# Altium schematic symbol library Schlib1.SchLib: 23 symbols
Pins are listed as number, name and electrical type; pins without a type are passive.

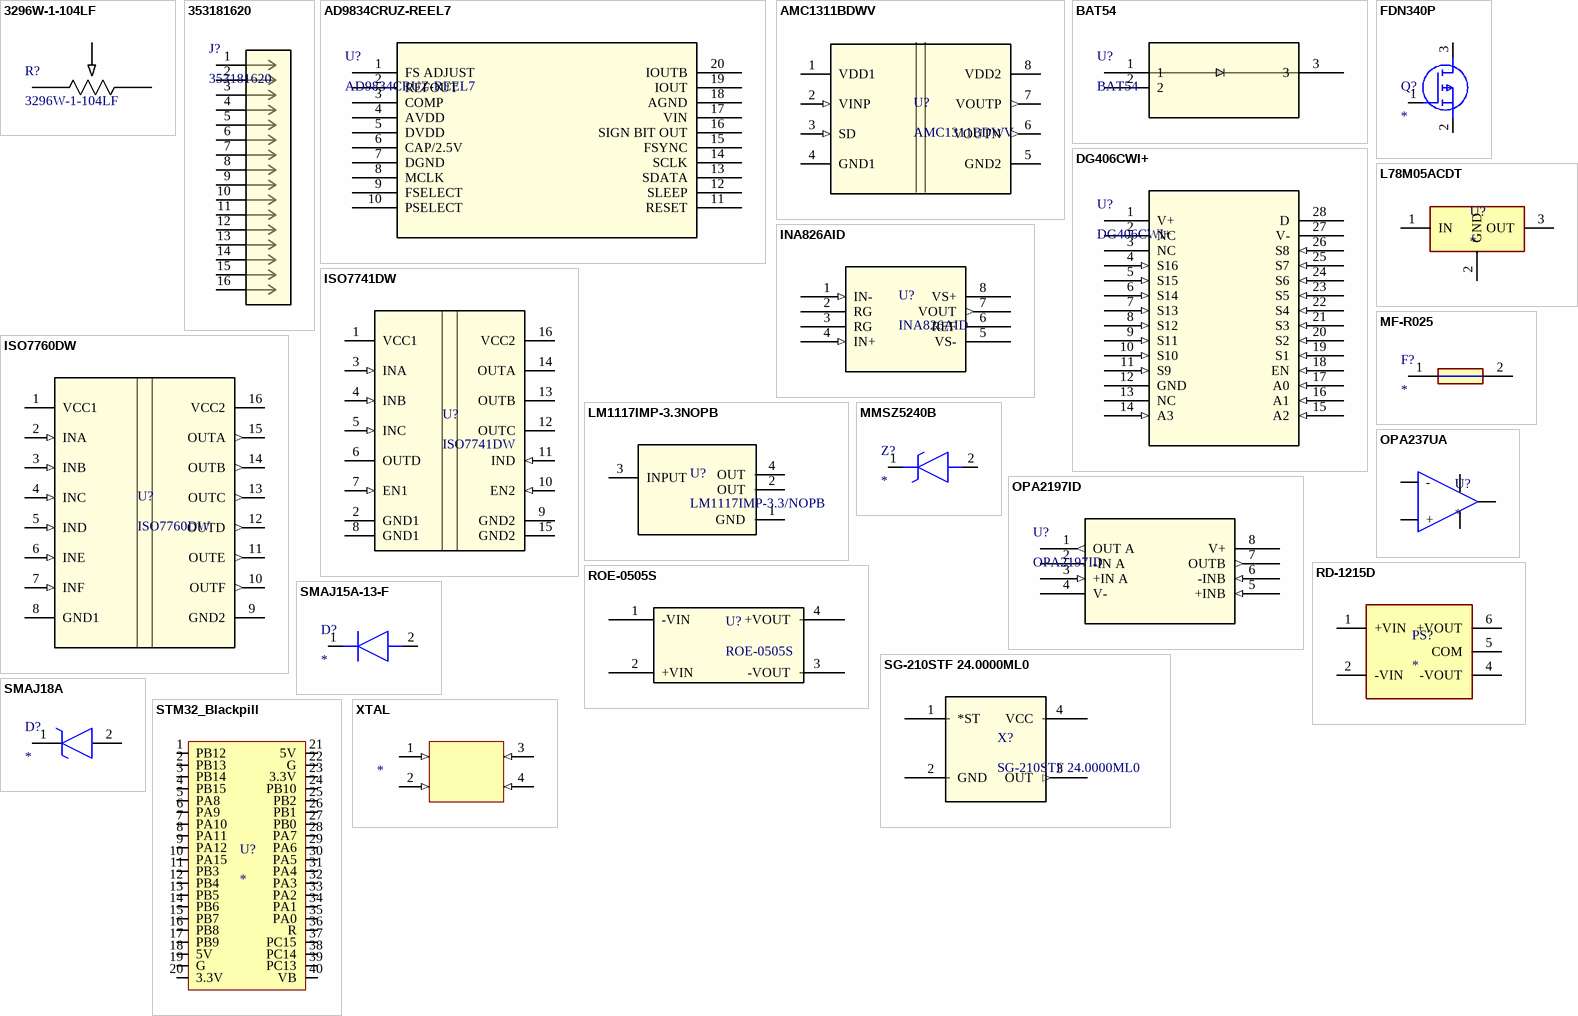
[diagram p0: symbols 3296W-1-104LF to XTAL]

## 3296W-1-104LF
designator R?
Description; Manufacturer_Name: Bourns Electronics; Copyright: Copyright (C) 2025 Ultra Librarian. All rights reserved.; Manufacturer_Part_Number: 3296W-1-104LF
footprint POT_3296W
pins: 1, 2, 3

## 353181620
designator J?
4.20mm Pitch Mini-Fit Header, Dual Row, Right-Angle, 16 Circuits, PA Polyamide (Nylon) 6/6 94V-2, White; Manufacturer_Name: Molex Connector Corporation; Copyright: Copyright (C) 2025 Ultra Librarian. All rights reserved.; Manufacturer_Part_Number: 353181620; RefDes: RefDes; Type: Type
footprint CONN_SD-35318-xxxx_16_MOL
pins: 1, 2, 3, 4, 5, 6, 7, 8, 9, 10, 11, 12, 13, 14, 15, 16

## AD9834CRUZ-REEL7
designator U?
20 mW Power, 2.3 V to 5.5 V, 75 MHz Complete DDS; Manufacturer_Name: Analog Devices Inc; Copyright: Copyright (C) 2026 Ultra Librarian. All rights reserved.; Manufacturer_Part_Number: AD9834CRUZ-REEL7; RefDes: RefDes; Type: Type
footprint RU_20_ADI-M
pins: 1 FS ADJUST, 2 REFOUT, 3 COMP, 4 AVDD (power), 5 DVDD (power), 6 CAP/2.5V, 7 DGND, 8 MCLK, 9 FSELECT, 10 PSELECT, 11 RESET, 12 SLEEP, 13 SDATA, 14 SCLK, 15 FSYNC, 16 SIGN BIT OUT, 17 VIN, 18 AGND, 19 IOUT, 20 IOUTB

## AMC1311BDWV
designator U?
2-V input, precision voltage sensing reinforced isolated amplifier 8-SOIC -55 to 125; Manufacturer_Name: Texas Instruments; TYPE: TYPE; RefDes: RefDes; Copyright: Copyright (C) 2025 Ultra Librarian. All rights reserved.; Manufacturer_Part_Number: AMC1311BDWV
footprint DWV0008A
pins: 1 VDD1 (power), 2 VINP (in), 3 SD (in), 4 GND1 (power), 5 GND2 (power), 6 VOUTN (out), 7 VOUTP (out), 8 VDD2 (power)

## BAT54
designator U?
Description; Manufacturer_Name: onsemi; Copyright: Copyright (C) 2025 Ultra Librarian. All rights reserved.; Manufacturer_Part_Number: BAT54; RefDes: RefDes; Type: Type
footprint SOT-23_3L_ONS-M
pins: 1, 2, 3

## DG406CWI+
designator U?
Improved, 16-Channel/Dual 8-Channel, CMOS Analog Multiplexers; Manufacturer_Name: Analog Devices Inc; Copyright: Copyright (C) 2026 Ultra Librarian. All rights reserved.; Manufacturer_Part_Number: DG406CWI+; RefDes: RefDes; Type: Type
footprint 21-0042_W28+6_MXM
pins: 1 V+ (power), 2 NC, 3 NC, 4 S16 (in), 5 S15 (in), 6 S14 (in), 7 S13 (in), 8 S12 (in), 9 S11 (in), 10 S10 (in), 11 S9 (in), 12 GND (power), 13 NC, 14 A3 (in), 15 A2 (in), 16 A1 (in), 17 A0 (in), 18 EN (in), 19 S1 (in), 20 S2 (in), 21 S3 (in), 22 S4 (in), 23 S5 (in), 24 S6 (in), 25 S7 (in), 26 S8 (in), 27 V- (power), 28 D

## FDN340P
designator Q?
MOSFET (P-Channel); Manufacturer_Name: onsemi; Manufacturer_Part_Number: FDN340P; Datasheet Link: https://www.onsemi.com/pub/Collateral/FDN340P-D.PDF; Height: 1.12mm; Mouser Part Number: 512-FDN340P; Mouser Price/Stock: https://www.mouser.co.uk/ProductDetail/onsemi-Fairchild/FDN340P?qs=AMp2PTjoga9dhzFXRaqTZw%3D%3D; Arrow Part Number: FDN340P; Arrow Price/Stock: https://www.arrow.com/en/products/fdn340p/on-semiconductor?utm_currency=USD&region=nac
footprint SOT95P237X112-3N
pins: 1 G, 2 S, 3 D

## INA826AID
designator U?
Precision, 200-Î¼A Supply Current, 36-V Supply Instrumentation Amplifier 8-SOIC -40 to 125; Manufacturer_Name: Texas Instruments; Copyright: Copyright (C) 2025 Ultra Librarian. All rights reserved.; Manufacturer_Part_Number: INA826AID; RefDes: RefDes; Type: Type
footprint D8-M
pins: 1 IN- (in), 2 RG, 3 RG, 4 IN+ (in), 5 VS- (power), 6 REF, 7 VOUT (out), 8 VS+ (power)

## ISO7741DW
designator U?
Robust EMC, quad-channel, 3/1, reinforced digital isolator 16-SOIC -55 to 125; Manufacturer_Name: Texas Instruments; TYPE: TYPE; RefDes: RefDes; Copyright: Copyright (C) 2026 Ultra Librarian. All rights reserved.; Manufacturer_Part_Number: ISO7741DW
footprint DW0016B_M
pins: 1 VCC1 (power), 2 GND1 (power), 3 INA (in), 4 INB (in), 5 INC (in), 6 OUTD (hiz), 7 EN1 (in), 8 GND1 (power), 9 GND2 (power), 10 EN2 (in), 11 IND (in), 12 OUTC (hiz), 13 OUTB (hiz), 14 OUTA (hiz), 15 GND2 (power), 16 VCC2 (power)

## ISO7760DW
designator U?
Robust EMC, six-channel, 6/0, reinforced digital isolator 16-SOIC -55 to 125; Manufacturer_Name: Texas Instruments; TYPE: TYPE; RefDes: RefDes; Copyright: Copyright (C) 2025 Ultra Librarian. All rights reserved.; Manufacturer_Part_Number: ISO7760DW
footprint DW0016B_M
pins: 1 VCC1 (power), 2 INA (in), 3 INB (in), 4 INC (in), 5 IND (in), 6 INE (in), 7 INF (in), 8 GND1 (power), 9 GND2 (power), 10 OUTF (out), 11 OUTE (out), 12 OUTD (out), 13 OUTC (out), 14 OUTB (out), 15 OUTA (out), 16 VCC2 (power)

## L78M05ACDT
designator U?
Integrated Circuit; Manufacturer_Name: STMicroelectronics; Manufacturer_Part_Number: L78M05ACDT; Datasheet Link: https://componentsearchengine.com/Datasheets/2/L78M05ACDT.pdf; Height: 2.4mm; Mouser Part Number: 511-L78M05ACDT; Mouser Price/Stock: https://www.mouser.co.uk/ProductDetail/STMicroelectronics/L78M05ACDT?qs=y2nfjSRjEj0AoPOeCXWRuA%3D%3D
footprint L78M05ACDT
pins: 1 IN (power), 2 GND (power), 3 OUT (power)

## LM1117IMP-3.3NOPB
designator U?, comment LM1117IMP-3.3/NOPB
800-mA 15-V linear voltage regulator 4-SOT-223 -40 to 125; Manufacturer_Name: Texas Instruments; TYPE: TYPE; RefDes: RefDes; Copyright: Copyright (C) 2025 Ultra Librarian. All rights reserved.; Manufacturer_Part_Number: LM1117IMP-3.3/NOPB
footprint DCY0004A_M
pins: 1 GND (power), 2 OUT (power), 3 INPUT (power), 4 OUT (power)

## MF-R025
designator F?
Fuse; Manufacturer_Name: Bourns; Manufacturer_Part_Number: MF-R025; Datasheet Link: https://www.mouser.ph/datasheet/2/54/mf_r-777680.pdf; Height: 7.4mm; Mouser Part Number: 652-MFR025; Mouser Price/Stock: https://www.mouser.co.uk/ProductDetail/Bourns/MF-R025?qs=NmEazmuVvbXTkonguszQtA%3D%3D; Arrow Part Number: MF-R025; Arrow Price/Stock: https://www.arrow.com/en/products/mf-r025/bourns?utm_currency=USD&region=nac
footprint MFR025
pins: 1, 2

## MMSZ5240B
designator Z?
Zener Diode; Manufacturer_Name: onsemi; Manufacturer_Part_Number: MMSZ5240B; Datasheet Link: https://eu.mouser.com/datasheet/2/308/MMSZ5226B-1301377.pdf; Height: 1.28mm; Mouser Part Number: 512-MMSZ5240B; Mouser Price/Stock: https://www.mouser.co.uk/ProductDetail/onsemi-Fairchild/MMSZ5240B?qs=FITO%2F%2FQgYDlKkHnZqrmSpg%3D%3D; Arrow Part Number: MMSZ5240B; Arrow Price/Stock: https://www.arrow.com/en/products/mmsz5240b/on-semiconductor
footprint SOD3816X128N
pins: 1 K, 2 A

## OPA237UA
designator U?
Single-Supply Operational Amplifiers MicroAmplifier™ Series 8-SOIC -40 to 70; Manufacturer: Texas Instruments; Manufacturer Part Number: OPA237UA; Bandwidth: 1.5MHz; Unity Gain Bandwidth Product: 1.4MHz; Min Supply Voltage: 2.7V; Max Supply Voltage: 36V; Nominal Supply Current: 475uA; Voltage Gain: 88dB; Common Mode Rejection Ratio: 78dB; Number of Channels: 1; Slew Rate: 0.5V/µs; Max I/O Voltage: 750uV; Input Bias Current: 40nA; Operating Supply Current: 200uA; Power Supply Rejection Ratio (PSRR): 100dB; Output Current per Channel: 8mA; Operating Supply Voltage: 5V; Dual Supply Voltage: 15V; Min Dual Supply Voltage: 1.35V; Max Dual Supply Voltage: 18V; Supplier 1: Digi-Key; RoHS: Yes; Category: Amplifiers - Op Amps, Buffer, Instrumentation; Stock 1: 186; Pricing 1: 1=2,06000, 10=1,85400, 25=1,74880, 100=1,49010, 250=1,39920, 500=1,22430, 1000=1,15500 (USD); Case/Package: D; Number of Pins: 8; Min Operating Temperature: -40°C; Max Operating Temperature: 70°C; Package Quantity: 75; Packaging: Rail/Tube; Number of Circuits: 1; Gain Bandwidth Product: 1.4MHz; Input Offset Voltage (Vos): 750uV; Number of Elements: 1; Number of Amplifiers: 1; Nominal Gain Bandwidth Product: 1.4MHz; Length: 4.9mm; Width: 3.91mm; Height: 1.58mm; Radiation Hardening: No; Lead Free: Lead Free; REACH SVHC: No SVHC; ComponentLink1URL: https://datasheet.ciiva.com/7684/1789011-7684483.pdf?src-supplier=Element14; ComponentLink1Description: https://datasheet.ciiva.com/7684/1789011-7684483.pdf?src-supplier=Element14; ComponentLink2URL: https://datasheet.ciiva.com/22729/1716473-22729883.pdf?src-supplier=Element14; ComponentLink2Description: https://datasheet.ciiva.com/22729/1716473-22729883.pdf?src-supplier=Element14; ComponentLink3URL: https://datasheet.ciiva.com/2973/sbos057a-2973962.pdf?src-supplier=Avnet; ComponentLink3Description: https://datasheet.ciiva.com/2973/sbos057a-2973962.pdf?src-supplier=Avnet; ComponentLink4URL: https://datasheet.ciiva.com/26243/sbos057a-26243614.pdf?src-supplier=Avnet+Europe; ComponentLink4Description: https://datasheet.ciiva.com/26243/sbos057a-26243614.pdf?src-supplier=Avnet+Europe; ComponentLink5URL: https://datasheet.ciiva.com/1803/opa2237-1803652.pdf?src-supplier=Digi-Key; ComponentLink5Description: https://datasheet.ciiva.com/1803/opa2237-1803652.pdf?src-supplier=Digi-Key; ComponentLink6URL: https://datasheet.ciiva.com/48707/001011214-da-01-en-ic-opamp-gp-1-5mhz-s-opa237ua-soic-8-tid-48707210.pdf?src-supplier=Conrad; ComponentLink6Description: https://datasheet.ciiva.com/48707/001011214-da-01-en-ic-opamp-gp-1-5mhz-s-opa237ua-soic-8-tid-48707210.pdf?src-supplier=Conrad; Supplier Part Number 1: OPA237UA-ND
footprint SOIC127P599X175-8N
pins: 2 -, 3 +, 4 V-, 6 Vout, 7 V+

## OPA2197ID
designator U?
Dual 36-V, precision, rail-to-rail input output, low offset voltage op amp 8-SOIC -40 to 125; Manufacturer_Name: Texas Instruments; Copyright: Copyright (C) 2025 Ultra Librarian. All rights reserved.; Manufacturer_Part_Number: OPA2197ID; RefDes: RefDes; Type: Type
footprint D8_TEX-M
pins: 1 OUT A (out), 2 -IN A, 3 +IN A (in), 4 V- (power), 5 +INB (in), 6 -INB (in), 7 OUTB (out), 8 V+ (power)

## RD-1215D
designator PS?
Power Supply; Manufacturer_Name: RECOM Power; Manufacturer_Part_Number: RD-1215D; Datasheet Link: https://www.mouser.com/datasheet/2/468/RD-958126.pdf; Height: 10.7mm; Mouser Part Number: 919-RD-1215D; Mouser Price/Stock: https://www.mouser.co.uk/ProductDetail/RECOM-Power/RD-1215D?qs=XF8hdbuHJAUeGblPqJIAfA%3D%3D
footprint RD1215D
pins: 1 +VIN, 2 -VIN, 4 -VOUT, 5 COM, 6 +VOUT

## ROE-0505S
designator U?
Description; Manufacturer_Name: Recom Power; Copyright: Copyright (C) 2026 Ultra Librarian. All rights reserved.; Manufacturer_Part_Number: ROE-0505S; RefDes: RefDes; Type: Type
footprint ROE_RCP
pins: 1 -VIN (power), 2 +VIN (power), 3 -VOUT (power), 4 +VOUT (power)

## SG-210STF 24.0000ML0
designator X?
Description; Manufacturer_Name: Epson; Type: Oscillators; Copyright: Copyright (C) 2025 Ultra Librarian. All rights reserved.; Manufacturer_Part_Number: SG-210STF 24.0000ML0; RefDes: RefDes
footprint SG-210STF_EPS
pins: 1 *ST, 2 GND (power), 3 OUT (out), 4 VCC (power)

## SMAJ15A-13-F
designator D?
Diode; Manufacturer_Name: Diodes Incorporated; Manufacturer_Part_Number: SMAJ15A-13-F; Datasheet Link: https://www.diodes.com/assets/Datasheets/ds19005.pdf; Height: 2.4mm; Mouser Part Number: 621-SMAJ15A-13-F; Mouser Price/Stock: https://www.mouser.co.uk/ProductDetail/Diodes-Incorporated/SMAJ15A-13-F?qs=sxN%252BoM2fis%252B5%252BK6%2FciupkA%3D%3D; Arrow Part Number: SMAJ15A-13-F; Arrow Price/Stock: https://www.arrow.com/en/products/smaj15a-13-f/diodes-incorporated.html?utm_currency=USD&region=europe
footprint DIOM5226X240N
pins: 1 K, 2 A

## SMAJ18A
designator D?
TVS Diode (Uni-directional); Manufacturer_Name: LITTELFUSE; Manufacturer_Part_Number: SMAJ18A; Datasheet Link: https://www.littelfuse.com/~/media/electronics/datasheets/tvs_diodes/littelfuse_tvs_diode_smaj_datasheet.pdf.pdf; Height: 2.29mm; Mouser Part Number: 576-SMAJ18A; Mouser Price/Stock: https://www.mouser.co.uk/ProductDetail/Littelfuse/SMAJ18A?qs=HR2RnyOI4E7wHW1lca9u5w%3D%3D; Arrow Part Number: SMAJ18A; Arrow Price/Stock: https://www.arrow.com/en/products/smaj18a/littelfuse?utm_currency=USD&region=nac
footprint DIOM5026X229N
pins: 1 K, 2 A

## STM32_Blackpill
designator U?
footprint STM32_Blackpıll
pins: 1 PB12, 2 PB13, 3 PB14, 4 PB15, 5 PA8, 6 PA9, 7 PA10, 8 PA11, 9 PA12, 10 PA15, 11 PB3, 12 PB4, 13 PB5, 14 PB6, 15 PB7, 16 PB8, 17 PB9, 18 5V, 19 G, 20 3.3V, 21 5V, 22 G, 23 3.3V, 24 PB10, 25 PB2, 26 PB1, 27 PB0, 28 PA7, 29 PA6, 30 PA5, 31 PA4, 32 PA3, 33 PA2, 34 PA1, 35 PA0, 36 R, 37 PC15, 38 PC14, 39 PC13, 40 VB

## XTAL
designator OSC
ECS-200-18-30B-AGN-TR (3)
footprint XTAL_ECS-200-18-30B-AGN-TR - duplicate
pins: 1 (in), 2 (in), 3 (in), 4 (in)